# Altium schematic symbol library Buck-Boost Switching Regulators.SchLib: 1 symbol
Pins are listed as number, name and electrical type; pins without a type are passive.

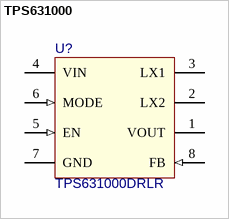
[diagram p0: symbol TPS631000]

## TPS631000
designator U?  value TPS631000DRLR  (hidden comment: TPS631000)
1.5-A Output Current, High Power Density Buck-Boost Converter
footprint SOT-563-8 (DRL0008A) (SOT-563, 8-Leads, Body 2.10x1.20mm, Pitch 0.50mm, IPC Medium Density)
pins: 1 VOUT (power) "Power stage output", 2 LX2 "Inductor switching node of the boost stage", 3 LX1 "Inductor switching node of the buck stage", 4 VIN (power) "Supply input voltage", 5 EN (in) "Device enable. Set High to enable and Low to disable. It must not be left floating", 6 MODE (in) "PFM/PWM selection. Set Low for power save mode, set High for forced PWM.", 7 GND (power) "Power ground", 8 FB (in) "Voltage feedback. Sensing pin."